# EAGLE library part ADIS1646X (library ADI_iSensor_Libraries)
ADIS1646x - Precision MEMS IMU Module The ADIS1646x is a precision, microelectric mechanical system (MEMS), inertial measurement unit (IMU) that includes a triaxial gyroscope and a triaxial accelerometer. Each inertial sensor in the ADIS16465 combines with signal conditioning to optimize dynamic performance. The factory calibration characterizes each sensor for sensitivity, bias, alignment, linear acceleration (gyroscope bias), and point of percussion (accelerometer location). Therefore, each sensor has dynamic compensation formulas that provide accurate sensor measurements over a broad set of conditions. The ADIS1646x provides a simple, cost effective method for integrating accurate, multiaxis inertial sensing into industrial systems, especially when compared to the complexity and investment associated with discrete designs. All necessary motion testing and calibration are part of the production process at the factory, greatly reducing system integration time. Tight orthogonal alignment simplifies inertial frame alignment in navigation systems. The serial peripheral interface (SPI) and register structure provide a simple interface for data collection and configuration control. The ADIS1646x is in an aluminum module package that is approximately 22.4 mm × 22.4 mm × 9 mm with a 14-lead connector interface. You are welcome to use this library for commercial purposes. For attribution, I ask that you reach out by sending me a link to the product being sold. My e-mail address is: juan@highcurrent.io
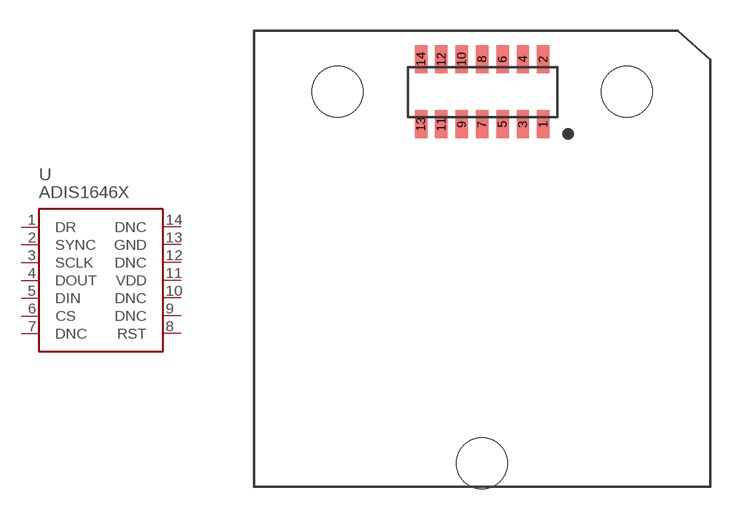
[diagram p1: symbol with the pads of ADIS16460; footprint ADIS16460]

Designator prefix U

## ADIS1646X  [ADIS16460]
1  DR
2  SYNC
3  SCLK
4  DOUT
5  DIN
6  CS
7  DNC
8  RST
9  DNC
10  DNC
11  VDD
12  DNC
13  GND
14  DNC

## Footprint ADIS16460 (pad centres in mm)
smd 0.61 x 1.37: 1 3,-4.6; 2 3,-1.4; 3 2,-4.6; 4 2,-1.4; 5 1,-4.6; 6 1,-1.4; 7 0,-4.6; 8 0,-1.4; 9 -1,-4.6; 10 -1,-1.4; 11 -2,-4.6; 12 -2,-1.4; 13 -3,-4.6; 14 -3,-1.4
hole 2.5 at -7.1,-3
hole 2.5 at 7.1,-3
hole 2.5 at 0,-21.25